# EAGLE library part TC4431 (library neo_retro_speedo)
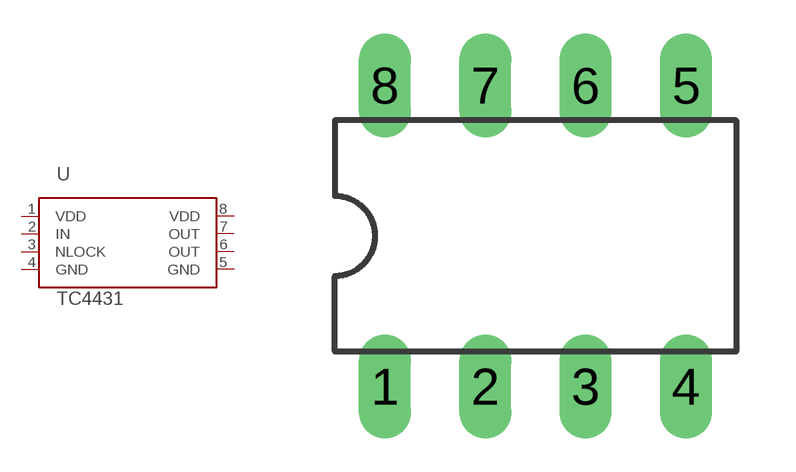
[diagram p0: symbol with the pads of DIL08; footprint DIL08]

Designator prefix -

## TC4431  [DIL08]
1  VDD  pwr
2  IN  in
3  NLOCK  in
4  GND  pwr
5  GND  pwr
6  OUT  out
7  OUT  out
8  VDD  pwr

## Footprint DIL08 (pad centres in mm)
Dual In Line Package
drill 0.813 long: 1 -3.81,-3.81; 2 -1.27,-3.81; 3 1.27,-3.81; 4 3.81,-3.81; 5 3.81,3.81; 6 1.27,3.81; 7 -1.27,3.81; 8 -3.81,3.81